# Altium footprint library MY.PcbLib: 177 footprints (part 10 of 12)
Each footprint in its own frame and in the unit in brackets; x right, y up, seen from the top. Pads: shape width x height; smd on the part's side, far side on the other; paste and mask are expansions set on the pad; w line width, h text height; cw(c..) or ccw(c..) is an arc to the next point about the centre after c.
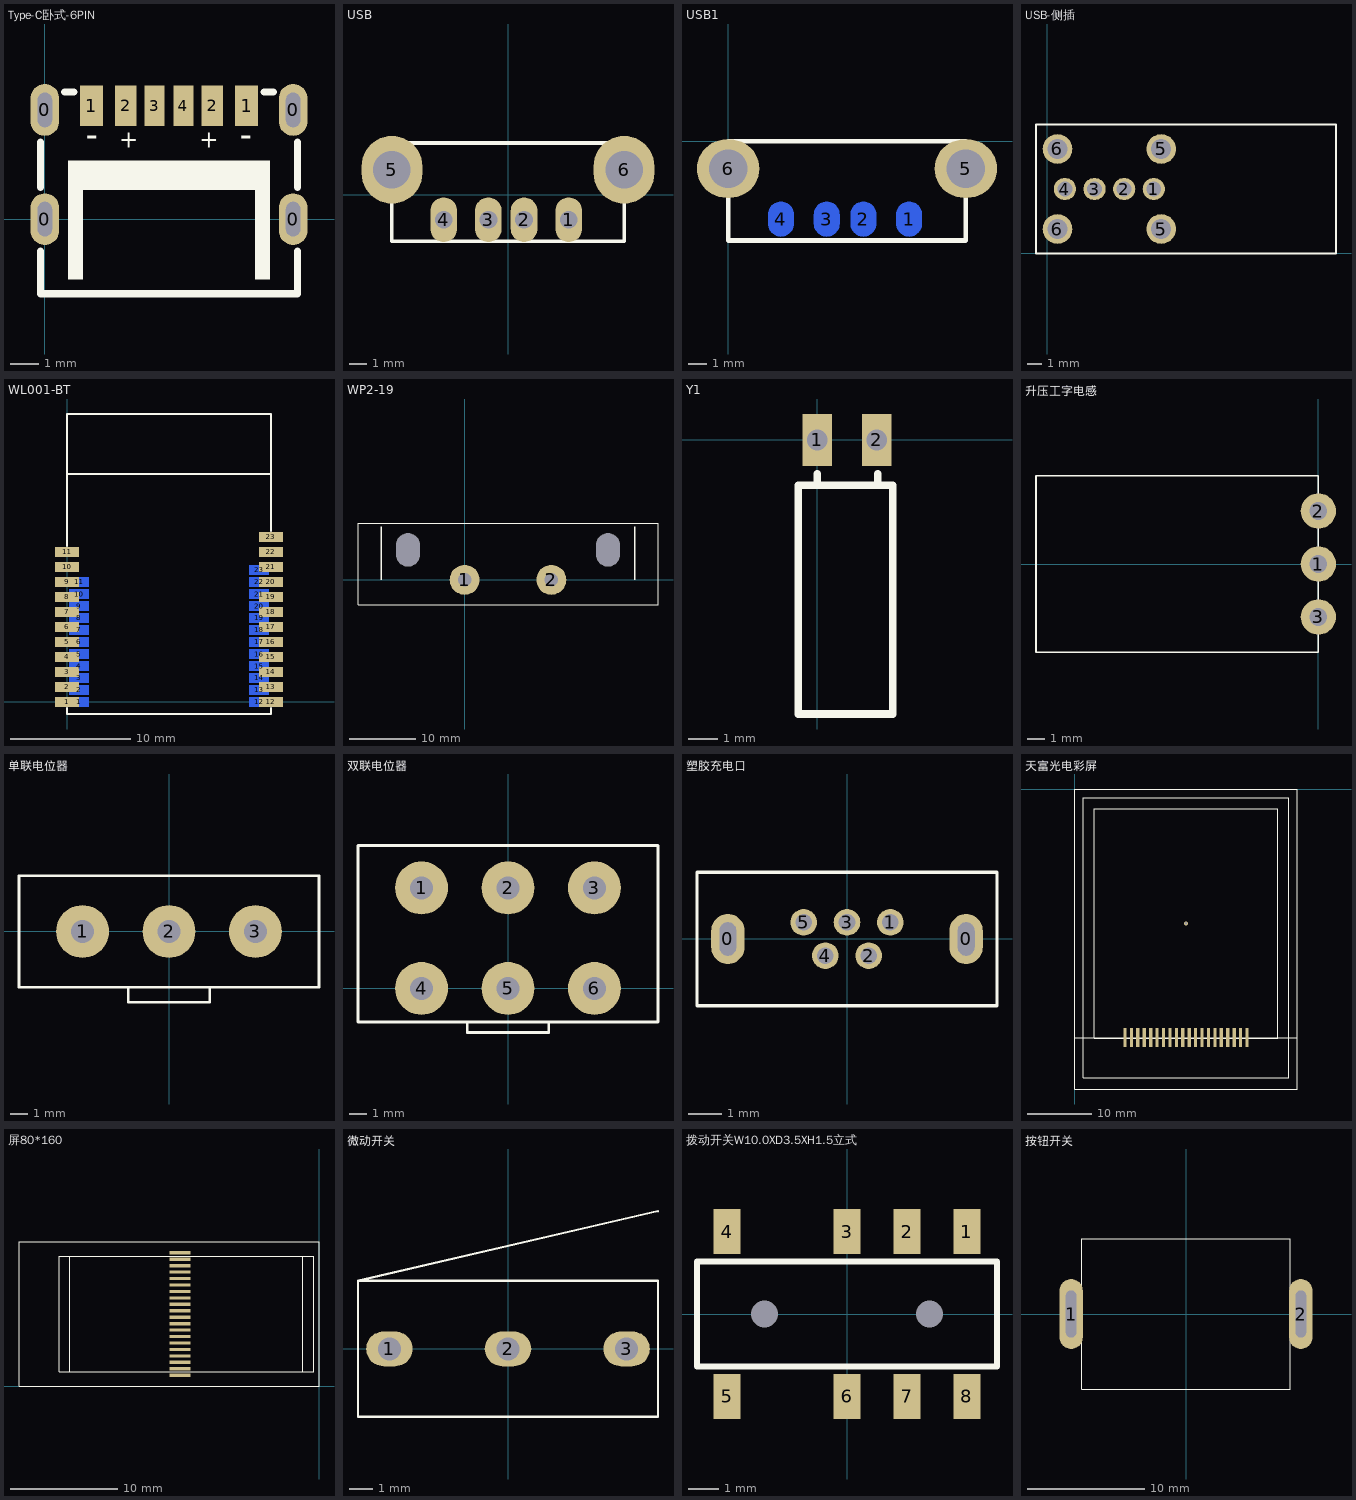
[diagram p9: the footprints below, top view; thin cyan lines are the x and y axes]

## Type-C卧式-6PIN [mm]
pads (10):
  oval 1x1.8 hole 0.5 slot 1.2 at 90 deg: 0(0,0) 0(0,3.8) 0(8.64,0) 0(8.64,3.8)
  rect 0.8x1.4 smd: 1(1.621,3.95) 1(7.021,3.95)
  rect 0.75x1.4 smd: 2(2.821,3.95) 2(5.821,3.95)
  rect 0.7x1.4 smd: 3(3.821,3.95) 4(4.821,3.95)
Top Overlay:
  region: 1.321,2.032 7.321,2.032 7.321,1.032 1.321,1.032
  region: 0.813,-2.083 0.813,2.032 1.321,2.032 1.321,-2.083
  region: 7.823,-2.083 7.315,-2.083 7.321,2.032 7.821,2.032
  lines w0.254: -0.15,-1.115 -0.15,-2.6 8.79,-2.6 8.79,-1.115 ; -0.15,1.116 -0.15,2.685 ; 0.695,4.425 1.002,4.425 ; 7.639,4.425 7.944,4.425 ; 8.79,1.116 8.79,2.685
  text "+" at 2.591,2.286 h1
  text "-" at 1.422,2.235 h1.5
  text "-" at 7.219,2.235 h1.5
  text "+" at 6.051,2.286 h1

## USB [mm]
pads (6):
  oval 1.5x2.5 hole 1: 1(3.4,-1.4) 2(0.9,-1.4) 3(-1.1,-1.4) 4(-3.6,-1.4)
  oval 3.4x3.8 hole 2.1: 5(-6.5,1.4) 6(6.5,1.4)
Top Overlay:
  lines w0.2: -6.5,-2.6 6.5,-2.6 6.5,2.9 -6.5,2.9 -6.5,-2.6

## USB1 [mm]
pads (6):
  oval 1.4x1.9 smd far side: 1(9.883,-4.258) 2(7.383,-4.258) 3(5.383,-4.258) 4(2.883,-4.258)
  oval 3.4x3.2 / inner round 3.2 / far side oval 3.4x3.2 hole 2.1: 5(12.981,-1.5) 6(0,-1.499)
Top Overlay:
  lines w0.254: 0,-5.429 0,0 12.981,0 12.981,-5.429 0,-5.429

## USB-侧插 [mm]
pads (8):
  round 1.5 hole 1: 1(7.2,4.35) 2(5.2,4.35) 3(3.2,4.35) 4(1.2,4.35)
  round 2 hole 1.35: 5(7.7,1.65) 5(7.7,7.05) 6(0.7,7.05)
  round 2 hole 1.35 unplated: 6(0.7,1.65)
Top Overlay:
  lines w0.15: -0.75,0 -0.75,8.7 19.5,8.7 19.5,0 -0.75,0

## WL001-BT [mm]
pads (46):
  rect 2x0.8 smd: 1(0,0) 2(0,1.25) 3(0,2.5) 4(0,3.75) 5(0,5) 6(0,6.25) 7(0,7.5) 8(0,8.75) 9(0,10) 10(0,11.25) 11(0,12.5) 12(17,0) 13(17,1.25) 14(17,2.5) 15(17,3.75) 16(17,5) 17(17,6.25) 18(17,7.5) 19(17,8.75) 20(17,10) 21(17,11.25) 22(17,12.5) 23(17,13.75)
  rect 1.6x0.8 smd far side: 1(1,0) 2(1,1) 3(1,2) 4(1,3) 5(1,4) 6(1,5) 7(1,6) 8(1,7) 9(1,8) 10(1,9) 11(1,10) 12(16,0) 13(16,1) 14(16,2) 15(16,3) 16(16,4) 17(16,5) 18(16,6) 19(16,7) 20(16,8) 21(16,9) 22(16,10) 23(16,11)
Top Overlay:
  lines w0.2: 0,-0.5 0,-1 17,-1 17,-0.5 ; 0,13 0,24 17,24 17,14.25 ; 0,19 17,19
Bottom Overlay:
  lines w0.2: 1,-0.5 1,-1 16,-1 16,-0.5 ; 1,10.5 1,24 16,24 16,11.5 ; 1,19 16,19

## WP2-19 [mm]
pads (4):
  round 4.5 hole 2: 1(0,0) 2(13,0)
  round 0 hole 3.5 slot 5 at 90 deg: 3(-8.5,4.5) 4(21.5,4.5)
Top Overlay:
  lines w0.15: -16,-3.775 -16,8.525 29,8.525 29,-3.775 -16,-3.775
  lines w0.2: -12.5,0 -12.5,8 ; 25.5,0 25.5,8

## Y1 [mm]
pads (2):
  rect 1x1.75 hole 0.7: 1(0,0) 2(2,0)
Top Overlay:
  lines w0.254: 0,-1.397 0,-1.143 ; 2.032,-1.397 2.032,-1.143 ; -0.635,-9.224 2.54,-9.224 2.54,-1.524 -0.635,-1.524 -0.635,-9.224

## 升压工字电感 [mm]
pads (3):
  round 2 hole 1: 1(0,0) 2(0,3) 3(0,-3)
Top Overlay:
  lines w0.1: -16,-5 -16,5 0,5 0,-5 -16,-5

## 单联电位器 [mm]
pads (3):
  round 3 hole 1.3: 1(-4.9,0) 2(0,0) 3(4.9,0)
Top Overlay:
  lines w0.15: -2.3,-3.15 -2.3,-4 2.3,-4 2.3,-3.15 ; -8.5,-3.15 -8.5,3.15 8.5,3.15 8.5,-3.15 -8.5,-3.15

## 双联电位器 [mm]
pads (6):
  round 3 hole 1.3: 1(-4.9,5.7) 2(0,5.7) 3(4.9,5.7) 4(-4.9,0) 5(0,0) 6(4.9,0)
Top Overlay:
  lines w0.15: -2.3,-1.9 -2.3,-2.5 2.3,-2.5 2.3,-1.9 ; -8.5,-1.9 8.5,-1.9 8.5,8.1 -8.5,8.1 -8.5,-1.9

## 塑胶充电口 [mm]
pads (7):
  oval 1x1.5 hole 0.5 slot 1 at 90 deg: 0(-3.575,0) 0(3.575,0)
  round 0.8 hole 0.5: 1(1.3,0.5) 2(0.65,-0.5) 3(0,0.5) 4(-0.65,-0.5) 5(-1.3,0.5)
Top Overlay:
  lines w0.1: -4.5,-2 4.5,-2 4.5,2 -4.5,2 -4.5,-2

## 天富光电彩屏 [mm]
pads (20):
  rect 0.5x3 smd: 1(7.85,-38.7) 2(8.85,-38.7) 3(9.85,-38.7) 4(10.85,-38.7) 5(11.85,-38.7) 6(12.85,-38.7) 7(13.85,-38.7) 8(14.85,-38.7) 9(15.85,-38.7) 10(16.85,-38.7) 11(17.85,-38.7) 12(18.85,-38.7) 13(19.85,-38.7) 14(20.85,-38.7) 15(21.85,-38.7) 16(22.85,-38.7) 17(23.85,-38.7) 18(24.85,-38.7) 19(25.85,-38.7) 20(26.85,-38.7)
via 17.35,-20.92 diameter 0.61 hole 0.356
Top Overlay:
  lines w0.1: 0,-38.7 34.7,-38.7 ; 0,-46.7 0,0 34.7,0 34.7,-46.7 0,-46.7 ; 1.325,-44.925 1.325,-1.325 33.375,-1.325 33.375,-44.925 1.325,-44.925 ; 3.05,-38.79 31.65,-38.79 31.65,-3.05 3.05,-3.05 3.05,-38.79

## 屏80*160 [mm]
pads (20):
  rect 2x0.3 smd: 1(-12.95,12.45) 2(-12.95,11.85) 3(-12.95,11.25) 4(-12.95,10.65) 5(-12.95,10.05) 6(-12.95,9.45) 7(-12.95,8.85) 8(-12.95,8.25) 9(-12.95,7.65) 10(-12.95,7.05) 11(-12.95,6.45) 12(-12.95,5.85) 13(-12.95,5.25) 14(-12.95,4.65) 15(-12.95,4.05) 16(-12.95,3.45) 17(-12.95,2.85) 18(-12.95,2.25) 19(-12.95,1.65) 20(-12.95,1.05)
Top Overlay:
  lines w0.1: -23.2,1.35 -23.2,12.15 ; -1.5,1.35 -1.5,12.15 ; -27.95,0 0,0 0,13.5 -27.95,13.5 -27.95,0 ; -24.2,1.35 -0.5,1.35 -0.5,12.15 -24.2,12.15 -24.2,1.35

## 微动开关 [mm]
pads (3):
  oval 2x1.5 hole 1: 1(-5.1,0) 2(0,0) 3(5.1,0)
Top Overlay:
  lines w0.1: 6.45,5.925 -6.45,2.925 ; -6.45,2.925 6.45,2.925 6.45,-2.925 -6.45,-2.925 -6.45,2.925

## 拨动开关W10.0XD3.5XH1.5立式 [mm]
pads (10):
  round 0 hole 0.9: 0(-2.75,0) 0(2.75,0)
  rect 0.9x1.5 smd: 1(4,2.75) 2(2,2.75) 3(0,2.75) 4(-4,2.75) 5(-4,-2.75) 6(0,-2.75) 7(2,-2.75) 8(4,-2.75)
Top Overlay:
  lines w0.2: -5,-1.75 5,-1.75 5,1.75 -5,1.75 -5,-1.75

## 按钮开关 [mm]
pads (2):
  oval 2x6 hole 0.9 slot 4 at 90 deg: 1(-9.815,0) 2(9.815,0)
Top Overlay:
  lines w0.1: -8.915,-6.45 8.915,-6.45 8.915,6.45 -8.915,6.45 -8.915,-6.45